# Altium footprint library Custom pcb footprint.PcbLib: 87 footprints (part 5 of 6)
Each footprint in its own frame and in the unit in brackets; x right, y up, seen from the top. Pads: shape width x height; smd on the part's side, far side on the other; paste and mask are expansions set on the pad; w line width, h text height; cw(c..) or ccw(c..) is an arc to the next point about the centre after c.
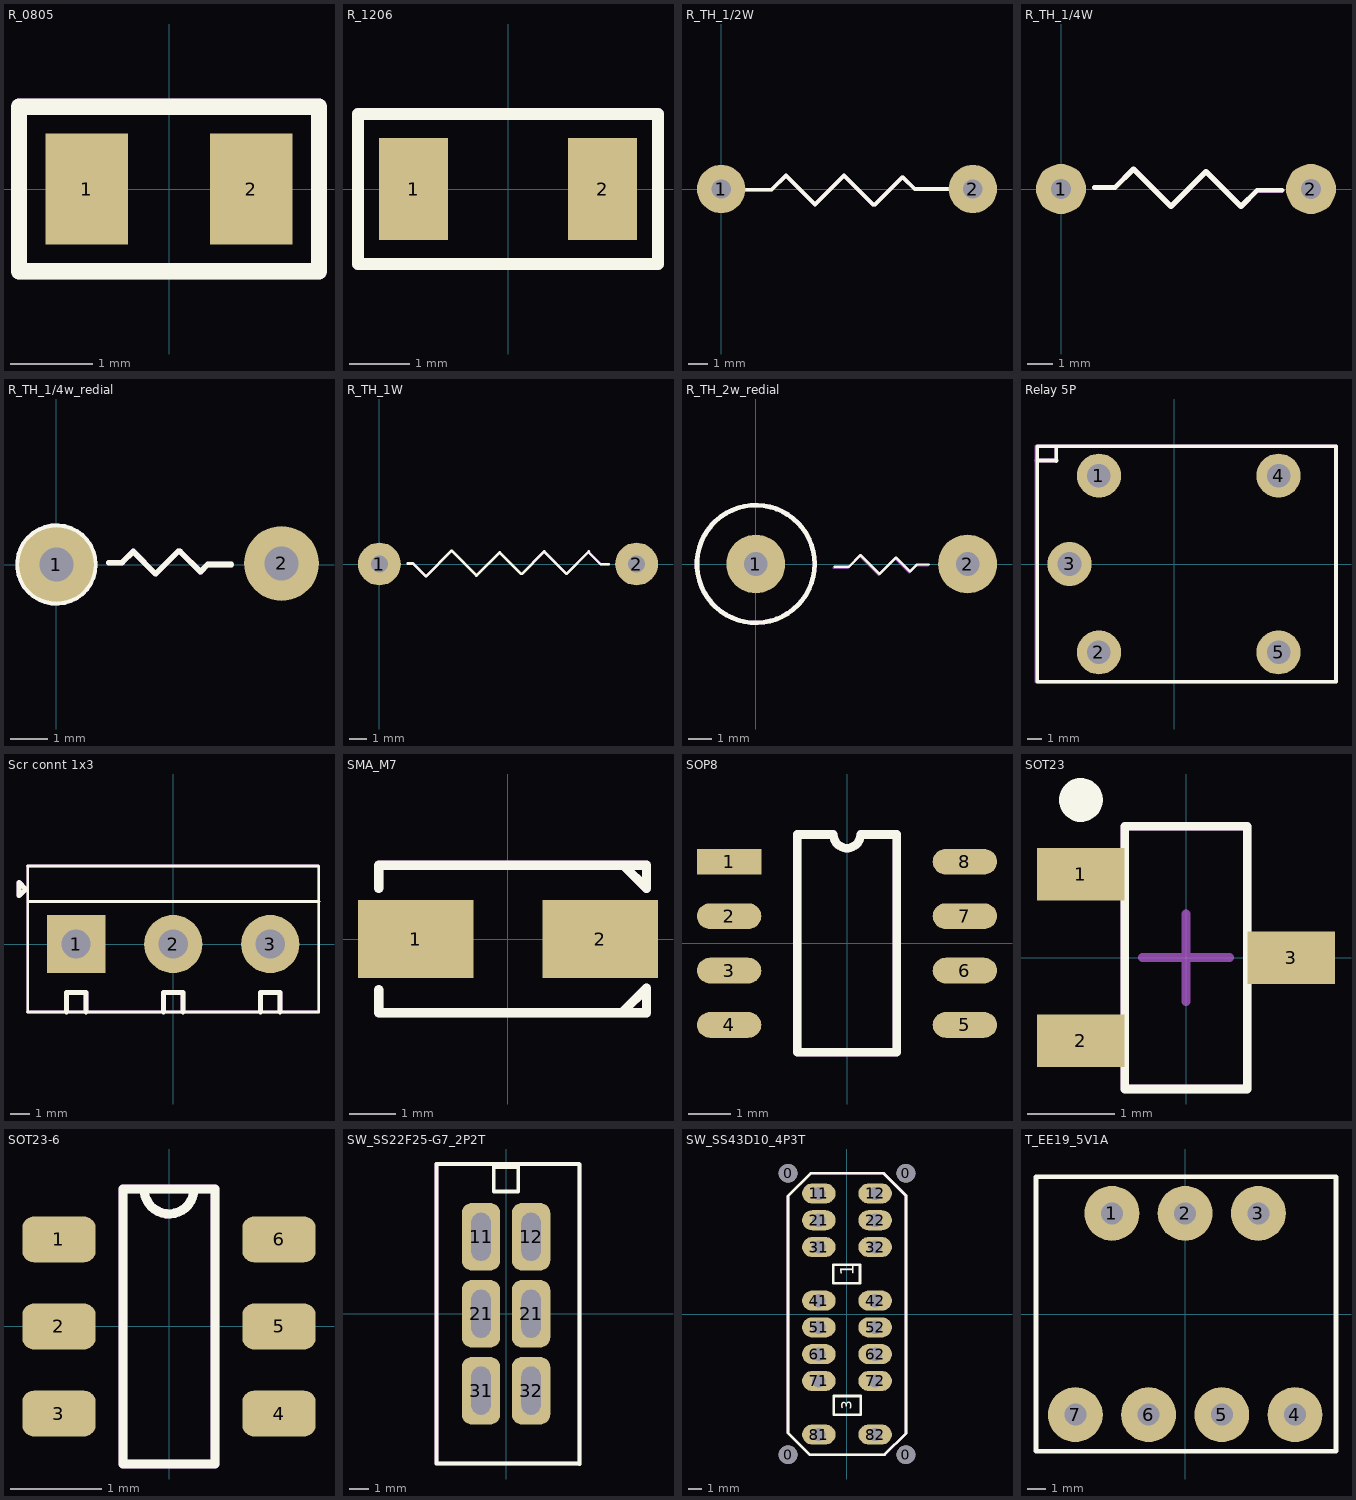
[diagram p4: the footprints below, top view; thin cyan lines are the x and y axes]

## R_0805 [mm]
pads (2):
  rect 1x1.35 smd: 1(-1,0) 2(1,0)
Top Overlay:
  lines w0.2: -1.825,-1 -1.825,1 1.825,1 1.825,-1 -1.825,-1
Top Assembly:
  lines w0.2: -1.825,-1 -1.825,1 1.825,1 1.825,-1 -1.825,-1
  text "'.Designator'" at -1.725,-0.667 h0.7
3D body "RC0805FR-07470RL.STEP": height 0.61, standoff 0.01, extent -1,-0.625 1,0.625

## R_1206 [mm]
pads (2):
  rect 1.15x1.7 smd: 1(-1.575,0) 2(1.575,0)
Top Overlay:
  lines w0.2: -2.5,-1.25 2.5,-1.25 2.5,1.25 -2.5,1.25 -2.5,-1.25
Top Assembly:
  lines w0.2: -2.5,-1.25 2.5,-1.25 2.5,1.25 -2.5,1.25 -2.5,-1.25
  text "'.Designator'" at -2.15,-0.417 h0.7
3D body "RC1206JR-0713RL.STEP": height 0.66, standoff 0.01, extent -1.55,-0.8 1.55,0.8

## R_TH_1/2W [mm]
pads (2):
  round 2.5 hole 1: 1(0,0) 2(13,0)
Top Overlay:
  lines w0.1: 2.569,-0.041 2.609,-0.041
  lines w0.2: 1.105,-0.041 2.569,-0.041 ; 2.609,-0.041 3.35,0.7 ; 11.72,0 10,0 9.4,0.6 9.35,0.6 7.95,-0.8 7.85,-0.8 6.35,0.7 ; 3.35,0.7 4.85,-0.8 ; 3.35,0.7 3.35,0.7 ; 4.85,-0.8 6.35,0.7 ; 4.85,-0.8 4.85,-0.8 ; 6.35,0.7 6.35,0.7
Top Assembly:
  lines w0.1: 2.569,-0.041 2.609,-0.041
  lines w0.2: 1.105,-0.041 2.569,-0.041 ; 2.609,-0.041 3.35,0.7 ; 11.72,0 10,0 9.4,0.6 9.35,0.6 7.95,-0.8 7.85,-0.8 6.35,0.7 ; 3.35,0.7 4.85,-0.8 ; 3.35,0.7 3.35,0.7 ; 4.85,-0.8 6.35,0.7 ; 4.85,-0.8 4.85,-0.8 ; 6.35,0.7 6.35,0.7
  text "'.Designator'" at 1.871,-1.017 h0.8
3D body "Res_500W_TH.step": height 2.5, standoff -1.5, extent -0.25,-1 13.248,1

## R_TH_1/4W [mm]
pads (2):
  round 2 hole 0.8: 1(0,0) 2(10,0)
Top Overlay:
  lines w0.2: 1.345,0.053 2.153,0.053 2.9,0.8 ; 8.85,-0.05 7.85,-0.05 7.2,-0.7 ; 2.9,0.8 2.9,0.8 ; 2.9,0.8 4.4,-0.7 ; 4.4,-0.7 4.4,-0.7 ; 4.4,-0.7 5.8,0.7 ; 5.8,0.7 5.8,0.7 ; 5.8,0.7 7.2,-0.7 ; 7.2,-0.7 7.2,-0.7
Top Assembly:
  lines w0.2: 1.345,0.053 2.153,0.053 2.9,0.8 ; 8.85,-0.05 7.85,-0.05 7.2,-0.7 ; 2.9,0.8 2.9,0.8 ; 2.9,0.8 4.4,-0.7 ; 4.4,-0.7 4.4,-0.7 ; 4.4,-0.7 5.8,0.7 ; 5.8,0.7 5.8,0.7 ; 5.8,0.7 7.2,-0.7 ; 7.2,-0.7 7.2,-0.7
  text "'.Designator'" at 1.25,-0.983 h0.8
3D body "Res_250mW_TH.step": height 2.5, standoff -1.5, extent -0.25,-1 10.248,1

## R_TH_1/4w_redial [mm]
pads (2):
  round 2 hole 0.9: 1(0,0) 2(6.012,0.029)
Top Overlay:
  circle w0.2: c0,0 r1
  lines w0.15: 1.4,0.05 1.75,0.05 2.05,0.35 ; 4.663,0 4.036,0 3.843,-0.193 3.3,0.35 3.25,0.35 2.65,-0.25 2.05,0.35 ; 2.05,0.35 2.05,0.35
Top Assembly:
  circle w0.2: c0,0 r1
  lines w0.15: 1.4,0.05 1.75,0.05 2.05,0.35 ; 4.663,0 4.05,0 3.85,-0.2 3.3,0.35 3.25,0.35 2.65,-0.25 2.05,0.35 ; 2.05,0.35 2.05,0.35
  text "'.Designator'" at 1.3,-0.983 h0.5
3D body "R_TH_250mW_redial.step": height 9.17, standoff -2, extent -1.252,-1.221 6.148,1.179

## R_TH_1W [mm]
pads (2):
  round 2.5 hole 1: 1(0,0) 2(15,0)
Top Overlay:
  lines w0.15: 1.644,0.028 1.96,0.028 2.71,-0.722 4.21,0.778 5.66,-0.672 7.01,0.678 8.26,-0.572 8.31,-0.572 9.61,0.728 10.91,-0.572 12.21,0.728 12.21,0.678 12.91,-0.022 13.384,-0.022
Top Assembly:
  lines w0.15: 1.668,0.025 1.975,0.025 2.725,-0.725 4.225,0.775 5.675,-0.675 7.025,0.675 8.275,-0.575 8.325,-0.575 9.625,0.725 10.925,-0.575 12.225,0.725 12.225,0.675 12.925,-0.025 13.377,-0.025
  text "'.Designator'" at 2.436,-1.405 h1
3D body "Res_1W_TH.step": height 2.5, standoff -1.5, extent -0.25,-1 15.248,1

## R_TH_2w_redial [mm]
pads (2):
  round 2.5 hole 1: 1(0,0) 2(9,0)
Top Overlay:
  circle w0.2: c0,0 r2.5
  lines w0.1: 3.352,-0.122 3.952,-0.122 4.452,0.378 ; 7.352,-0.022 6.852,-0.022 6.552,-0.322 5.952,0.278 ; 4.452,0.378 5.252,-0.422 5.952,0.278 ; 4.452,0.378 4.452,0.378 ; 5.952,0.278 5.952,0.278
Top Assembly:
  circle w0.2: c0,0 r2.5
  lines w0.1: 3.318,-0.157 3.918,-0.157 4.418,0.343 ; 7.318,-0.057 6.818,-0.057 6.518,-0.357 5.918,0.243 ; 4.418,0.343 5.218,-0.457 5.918,0.243 ; 4.418,0.343 4.418,0.343 ; 5.918,0.243 5.918,0.243
  text "'.Designator'" at 2.914,-1.32 h0.5
3D body "Resistor_TH_Radial_2W.step": height 18.02, standoff -1.5, extent -2.5,-2.5 9.3,2.5

## Relay 5P [mm]
pads (5):
  round 3 hole 1.6: 1(-5.1,6) 2(-5.1,-6) 3(-7.1,0) 4(7.1,6) 5(7.1,-6)
Top Overlay:
  lines w0.254: -9.249,7.032 -7.983,7.032 ; -8,7 -8,8 ; -9.3,-8 -9.3,8 11,8 11,-8 -9.3,-8
Top Assembly:
  lines w0.254: -9.377,7.024 -8.024,7.024 -8,7 -8,8 ; -9.337,-8 -9.337,8 11,8 11,-8 -9.337,-8
  text "'.Designator'" at -2.746,-2.238 h1.52
3D body "Relay_SRD-05VDC-SL-C.STEP": height 16.2, standoff -2.6, extent -8.6,-7.8 10.6,7.8

## Scr connt 1x3 [mm] "p=5mm"
pads (3):
  rect 3x3 hole 1.5: 1(-5,0)
  round 3 hole 1.5: 2(0,0) 3(5,0)
Top Overlay:
  lines w0.15: -7.509,4.026 7.491,4.026 ; -7.5,-3.5 7.5,-3.5 7.5,4 ; -7.496,-3.502 -7.496,3.998 ; -7.488,2.199 7.512,2.199
  lines w0.254: -5.5,-3.5 -5.5,-2.5 -4.5,-2.5 -4.5,-3.5 ; -0.5,-3.5 -0.5,-2.5 0.5,-2.5 0.5,-3.5 ; 4.5,-3.5 4.5,-2.5 5.5,-2.5 5.5,-3.5 ; -7.946,2.502 -7.933,2.49 -7.59,2.833 -7.946,3.188 -7.946,2.502
Top Assembly:
  lines w0.15: -7.509,4.026 7.491,4.026 ; -7.5,-3.5 7.5,-3.5 7.5,4 ; -7.496,-3.502 -7.496,3.998 ; -7.488,2.199 7.512,2.199
  lines w0.254: -5.5,-3.5 -5.5,-2.5 -4.5,-2.5 -4.5,-3.5 ; -0.5,-3.5 -0.5,-2.5 0.5,-2.5 0.5,-3.5 ; 4.5,-3.5 4.5,-2.5 5.5,-2.5 5.5,-3.5 ; -7.946,2.502 -7.933,2.49 -7.59,2.833 -7.946,3.188 -7.946,2.502
  text "'.Designator'" at -3.277,-1.976 h0.7
3D body "Screw Terminal Block 5mm Blue 3-way.step": height 10.01, standoff -1.99, extent -7.65,-4 7.5,4

## SMA_M7 [mm]
pads (2):
  rect 2.5x1.7 smd: 1(-2,0) 2(2,0)
Top Overlay:
  lines w0.2: -2.8,-1.1 -2.8,-1.6 3,-1.6 3,-1.067 2.5,-1.567 ; -2.8,1.1 -2.8,1.6 3,1.6 3,1.1 2.5,1.6
Top Assembly:
  lines w0.2: -2.8,-1.1 -2.8,-1.6 3,-1.6 3,-1.067 2.5,-1.567 ; -2.8,1.1 -2.8,1.6 3,1.6 3,1.1 2.5,1.6
  text "'.Designator'" at -2.1,-0.133 h0.8
3D body "SMAZ5V1-13-F.STEP": height 2.41, standoff 0.01, extent -2.498,-1.3 2.698,1.305

## SOP8 [mm]
pads (8):
  rect 1.5x0.6 smd: 1(-2.75,1.905)
  oval 1.5x0.6 smd: 2(-2.75,0.635) 3(-2.75,-0.635) 4(-2.75,-1.905) 5(2.75,-1.905) 6(2.75,-0.635) 7(2.75,0.635) 8(2.75,1.905)
Top Overlay:
  lines w0.2: -1.165,-2.54 1.165,-2.54 1.165,2.54 0.318,2.54 cw(c0,2.54) -0.318,2.54 -1.165,2.54 -1.165,-2.54
Top Assembly:
  lines w0.2: -1.165,-2.54 1.165,-2.54 1.165,2.54 0.318,2.54 cw(c0,2.54) -0.318,2.54 -1.165,2.54 -1.165,-2.54
  text "'.Designator'" at 0.671,-2.45 h1.52
3D body "SOP-8.STEP": height 1.87, standoff 0, extent -3.066,-2.5 3.154,2.5

## SOT23 [mm] "SOT23, 3-Leads, Body 2.90x2.45mm, Pitch 0.95mm, IPC Medium Density"
height 1.1
pads (3):
  rect 1x0.6 smd: 1(-1.2,0.95) 2(-1.2,-0.95) 3(1.2,0)
Top Overlay:
  circle w0.25: c-1.2,1.8 r0.125
  lines w0.1: -0.7,-1.5 -0.7,1.5 0.7,1.5 0.7,-1.5 -0.7,-1.5
Top Assembly:
  lines w0.1: -0.7,-1.5 -0.7,1.5 0.7,1.5 0.7,-1.5 -0.7,-1.5
  text "'.Designator'" at -0.181,1.023 h0.8
Mechanical 15:
  lines w0.1: -0.5,0 0.5,0 ; 0,-0.5 0,0.5
3D body: height 1.1, standoff 0.05, extent -0.7,-1.5 0.7,1.5

## SOT23-6 [mm] "SMD 6 pin"
pads (6):
  rrect50% 0.8x0.5 smd: 1(-1.2,0.95) 2(-1.2,0) 3(-1.2,-0.95) 4(1.2,-0.95) 5(1.2,0) 6(1.2,0.95)
Top Overlay:
  lines w0.1: -0.271,1.474 ccw(c0,1.5) 0.272,1.5 ; -0.5,-1.5 0.5,-1.5 0.5,1.5 -0.5,1.5 -0.5,-1.5
Top Assembly:
  lines w0.1: -0.271,1.474 ccw(c0,1.5) 0.272,1.5 ; -0.5,-1.5 0.5,-1.5 0.5,1.5 -0.5,1.5 -0.5,-1.5
  text "'.Designator'" at 0.233,-1.4 h0.5
3D body "SOT23-6L.STEP": height 1.3, standoff 0, extent -1.42,-1.455 1.38,1.445

## SW_SS22F25-G7_2P2T [mm]
pads (6):
  rrect50% 2x3.5 hole 1 slot 2.5 at 90 deg: 11(-1.3,4) 12(1.3,4) 21(-1.3,0) 21(1.3,0) 31(-1.3,-4) 32(1.3,-4)
Top Overlay:
  lines w0.2: 3.796,-7.779 -3.604,-7.779 -3.604,7.781 3.796,7.781 ; 3.81,-7.808 3.81,7.752 ; -0.635,6.35 0.635,6.35 ; -0.635,6.35 -0.635,7.62 ; -0.635,6.35 0.635,6.35 ; -0.635,6.35 -0.635,7.62 ; -0.635,7.62 0.635,7.62 ; -0.635,7.62 0.635,7.62 ; 0.635,6.35 0.635,7.62 ; 0.635,6.35 0.635,7.62
Top Assembly:
  lines w0.2: 3.796,-7.779 -3.604,-7.779 -3.604,7.781 3.796,7.781 ; 3.81,-7.808 3.81,7.752
  text "'.Designator'String" at -3.324,-6.867 h1
3D body "Slide_Switch_SS22F25-G7_.step": height 18.5, standoff -3.7, extent -3.572,-7.747 3.728,7.853

## SW_SS43D10_4P3T [mm]
pads (20):
  round 1.4 hole 1.4: 0(-4.4,-10.5) 0(-4.4,10.5) 0(4.4,-10.5) 0(4.4,10.5)
  oval 2.5x1.5 hole 1: 11(-2.1,9) 12(2.1,9) 21(-2.1,7) 22(2.1,7) 31(-2.1,5) 32(2.1,5) 41(-2.1,1) 42(2.1,1) 51(-2.1,-1) 52(2.1,-1) 61(-2.1,-3) 62(2.1,-3) 71(-2.1,-5) 72(2.1,-5) 81(-2.1,-9) 82(2.1,-9)
Top Overlay:
  lines w0.2: -1.032,2.287 -1.032,3.685 ; -1.032,2.287 0.968,2.287 ; -1.032,2.287 -1.032,3.685 ; -1.032,2.287 0.968,2.287 ; -1.032,3.685 0.968,3.685 ; -1.032,3.685 0.968,3.685 ; -0.984,-7.525 -0.984,-6.117 ; -0.984,-7.525 1.016,-7.525 ; -0.984,-7.525 -0.984,-6.117 ; -0.984,-7.525 1.016,-7.525 ; -0.984,-6.117 1.016,-6.117 ; -0.984,-6.117 1.016,-6.117 ; 0.968,2.287 0.968,3.685 ; 0.968,2.287 0.968,3.685 ; 1.016,-7.525 1.016,-6.117 ; 1.016,-7.525 1.016,-6.117 ; -4.4,-8.89 -2.79,-10.5 2.808,-10.5 4.4,-8.908 4.4,8.831 2.743,10.487 2.743,10.5 -2.587,10.5 -2.713,10.5 -4.4,8.813 -4.4,-8.89
  text "1" at 0.519,2.843 h1
  text "3" at 0.352,-7.144 h0.8
Top Assembly:
  lines w0.2: -4.4,-8.885 -2.785,-10.5 2.814,-10.5 4.4,-8.914 4.4,8.866 2.779,10.488 2.779,10.5 -2.587,10.5 -2.702,10.5 -4.4,8.802 -4.4,-8.885
  text "1" at 0.519,2.843 h1
  text "3" at 0.352,-7.144 h0.8
  text "'.Designator'" at 0.427,-4.493 h1
3D body "SS43D10_4P3T.step": height 23.2, standoff -2.8, extent -4.807,-10.934 4.593,11.066

## T_EE19_5V1A [mm]
pads (7):
  round 3 hole 1.2: 1(-4,5.5) 2(0,5.5) 3(4,5.5) 4(6,-5.5) 5(2,-5.5) 6(-2,-5.5) 7(-6,-5.5)
Top Overlay:
  lines w0.254: -8.149,-7.5 8.24,-7.5 ; -8.149,-7.5 -8.149,7.5 ; -8.149,-7.5 8.24,-7.5 ; -8.149,-7.5 -8.149,7.5 ; -8.149,7.5 8.24,7.5 ; -8.149,7.5 8.24,7.5 ; 8.24,-7.5 8.24,7.5 ; 8.24,-7.5 8.24,7.5
Top Assembly:
  text "'.Designator'" at -5.299,-0.298 h1